# Altium schematic symbol library PTS526_SMG15_SMTR2_LFS.SchLib: 1 symbol
Pins are listed as number, name and electrical type; pins without a type are passive.

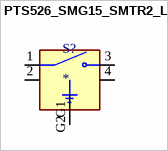
[diagram p0: symbol PTS526_SMG15_SMTR2_LFS]

## PTS526_SMG15_SMTR2_LFS
designator S?
Tactile Switch SPST-NO Top Actuated Surface Mount; MP: PTS526 SMG15 SMTR2 LFS; MF: C&K; Availability: In Stock; SnapEDA_Link: https://www.snapeda.com/parts/PTS526%20SMG15%20SMTR2%20LFS/C%2526K/view-part/?ref=snap; Value: *; Package: None; Price: None; Purchase-URL: https://pricing.snapeda.com/search/part/PTS526 SMG15 SMTR2 LFS/?ref=eda; Check_prices: https://www.snapeda.com/parts/PTS526%20SMG15%20SMTR2%20LFS/C%2526K/view-part/?ref=eda
footprint SW_PTS526_SMG15_SMTR2_LFS
pins: 1 COM, 2 COM, 3 NO, 4 NO, G1 GND (power), G2 GND (power)